# EAGLE library part FXLS8471Q (library BaseApp)
Digikey No :- __FXLS8471QR1CT-ND__
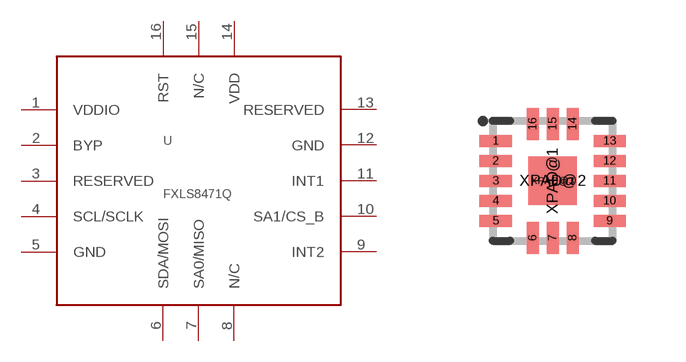
[diagram p104: symbol with the pads of 16QFN; footprint 16QFN]

Designator prefix -

## FXLS8471Q  [16QFN]
1  VDDIO
2  BYP
3  RESERVED
4  SCL/SCLK
5  GND
6  SDA/MOSI
7  SA0/MISO
8  N/C
9  INT2
10  SA1/CS_B
11  INT1
12  GND
13  RESERVED
14  VDD
15  N/C
16  RST

## Footprint 16QFN (pad centres in mm)
smd 0.8 x 0.3: 1 -1.425,1; 2 -1.425,0.5; 3 -1.425,0; 4 -1.425,-0.5; 5 -1.425,-1; 9 1.425,-1; 10 1.425,-0.5; 11 1.425,0; 12 1.425,0.5; 13 1.425,1
smd 0.3 x 0.8: 6 -0.5,-1.425; 7 0,-1.425; 8 0.5,-1.425; 14 0.5,1.425; 15 0,1.425; 16 -0.5,1.425
smd 1.22 x 1.22 bottom: XPAD@1 0,0
smd 1.22 x 1.22: XPAD@2 0,0
drill 0.305: XPAD@3 0,0